# Altium footprint library Andy_Parts.PcbLib: 121 footprints (part 2 of 8)
Each footprint in its own frame and in the unit in brackets; x right, y up, seen from the top. Pads: shape width x height; smd on the part's side, far side on the other; paste and mask are expansions set on the pad; w line width, h text height; cw(c..) or ccw(c..) is an arc to the next point about the centre after c.
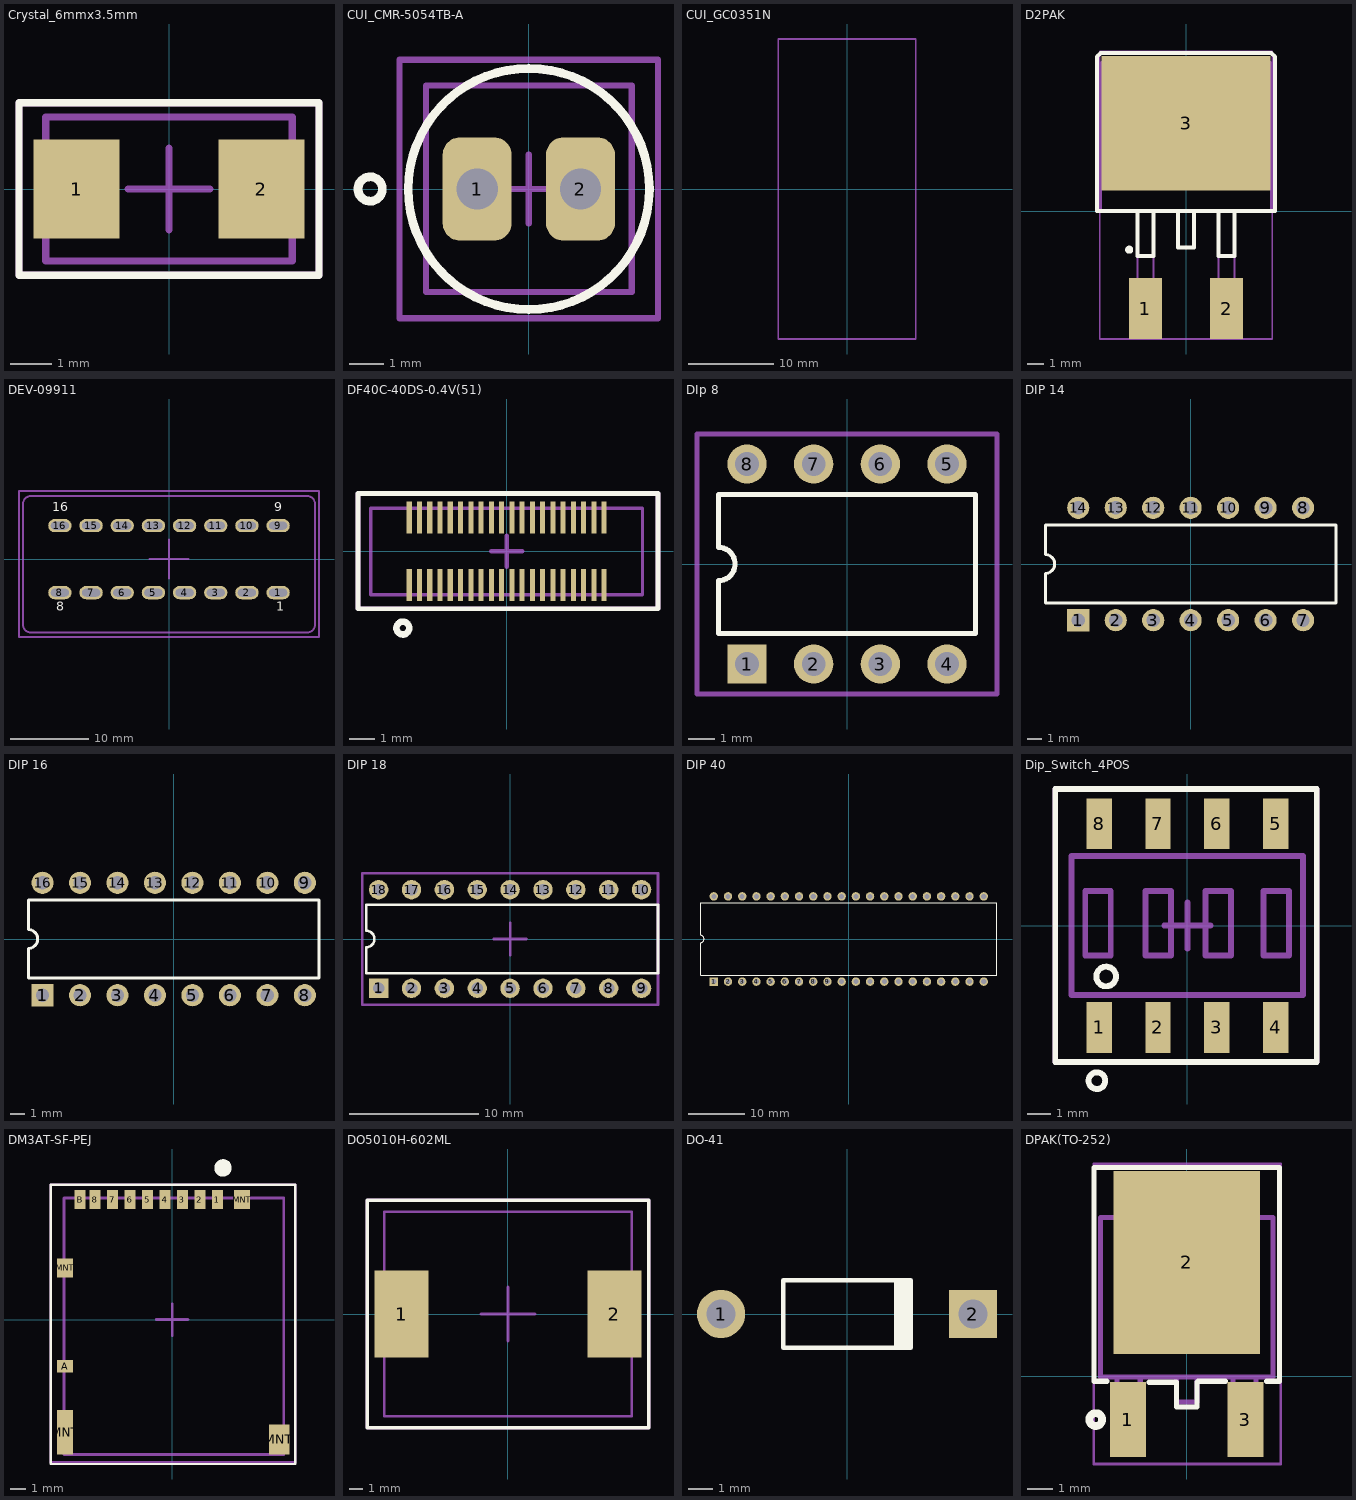
[diagram p1: the footprints below, top view; thin cyan lines are the x and y axes]

## Crystal_6mmx3.5mm [mm] "Citizen Crystal 6mm x 3.5mm"
height 1
pads (2):
  rect 2.1x2.4 smd: 1(-2.25,0) 2(2.25,0)
Top Overlay:
  lines w0.178: -3.65,-2.1 -3.65,2.1 3.65,2.1 3.65,-2.1 -3.65,-2.1
Mechanical 13:
  lines w0.178: -3,-1.75 3,-1.75 3,1.75 -3,1.75 -3,-1.75
Mechanical 15:
  lines w0.178: -1,0 0,0 ; 0,-1 0,0 ; 0,1 0,0 ; 1,0 0,0 ; -3.65,-2.1 3.65,-2.1 3.65,2.1 -3.65,2.1 -3.65,-2.1
3D body: height 1, standoff 0, extent -3,-1.75 3,1.75

## CUI_CMR-5054TB-A [mm] "MIC CONDENSER ELECT N/C -54DB"
height 5
pads (2):
  rrect50% 2x3 / inner rrect50% 1.702x1.702 / far side rect 1.702x1.702 hole 1.2: 1(-1.5,0)
  rrect50% 2x3 / inner rrect50% 1.702x1.702 / far side round 1.702 hole 1.2: 2(1.5,0)
Top Overlay:
  circle w0.254: c-4.604,0 r0.354
  circle w0.254: c0,0 r3.5
Mechanical 1:
  text ".Designator" at -0.75,-0.25 h1.27
Mechanical 13:
  lines w0.178: -2.988,-2.988 2.988,-2.988 2.988,3 -2.988,3 -2.988,-2.988
Mechanical 15:
  lines w0.178: -1,0 1,0 ; 0,-1 0,1 ; -3.75,-3.75 2.5,-3.75 3.75,-3.75 3.75,0.5 3.75,3.75 -3.75,3.75 -3.75,-3.75
3D body: height 4.9, standoff 0, extent -2.988,-2.988 2.988,3
3D body: height 5, standoff 4.9, extent -2.988,-2.988 2.988,3

## CUI_GC0351N [mm] "CUI GC0351N 16mm x 35mm speaker"
height 4.2
Mechanical 13:
  lines w0.178: -8,-17.5 8,-17.5 8,17.5 -8,17.5 -8,-17.5
3D body: height 4.2, standoff 0, extent -8,-17.5 8,17.5

## D2PAK [mm] "D2-PAK/TO-263-AB; 3 Leads (1 Cropped); Body 15.5 (inc. leads) x 10.5 mm (LxW max)"
height 4.69
pads (3):
  rect 2.083x3.81 smd: 1(-2.54,-6.096) 2(2.54,-6.096)
  rect 10.55x8.4 smd: 3(0,5.5)
Top Overlay:
  circle w0.25: c-3.554,-2.413 r0.125
  lines w0.254: -3.048,0 -3.048,-2.794 -2.032,-2.794 -2.032,0 ; -0.508,0 -0.508,-2.286 0.508,-2.286 0.508,0 ; 2.032,0 2.032,-2.794 3.048,-2.794 3.048,0 ; 5.575,9.6 5.575,0 -5.575,0 -5.575,9.6 -5.575,9.665 -5.334,9.906 5.334,9.906 5.575,9.665
Mechanical 1:
  text ".Designator" at 0,0 h1.27
Mechanical 13:
  lines w0.127: -3.048,-4.445 -3.048,0 ; -3.048,-2.794 -2.032,-2.794 ; -2.032,-4.445 -2.032,0 ; -0.508,0 -0.508,-2.286 0.508,-2.286 0.508,0 ; 2.032,-4.445 2.032,0 ; 2.032,-2.794 3.048,-2.794 ; 3.048,-4.445 3.048,0 ; -5.334,8.636 -5.334,9.271 -4.953,9.652 4.953,9.652 5.334,9.271 5.334,8.636 ; -5.334,8.636 5.334,8.636 ; -5.334,8.636 -5.334,0 5.334,0 5.334,8.636
Mechanical 15:
  lines w0.1: -5.4,-8 5.4,-8 5.4,10 -5.4,10 -5.4,-8
3D body: height 4.78, standoff -0.02, extent -5,-7.022 5,8.648
3D body: height 6.35, standoff 0, extent -5.334,0 5.334,8.636
3D body: height 1.65, standoff 0, extent -5.334,8.636 5.334,9.652
3D body: height 3.81, standoff 2.54, extent 2.032,-2.794 3.048,0
3D body: height 3.81, standoff 2.54, extent -3.048,-2.794 -2.032,0
3D body: height 3.81, standoff 2.54, extent -0.508,-2.286 0.508,0

## DEV-09911 [mm] "OBD-II Connector"
height 20
pads (16):
  oval 3x1.7 hole 1 slot 2.3 at 0 deg: 1(14,-4.3) 2(10,-4.3) 3(6,-4.3) 4(2,-4.3) 5(-2,-4.3) 6(-6,-4.3) 7(-10,-4.3) 8(-14,-4.3) 9(14,4.3) 10(10,4.3) 11(6,4.3) 12(2,4.3) 13(-2,4.3) 14(-6,4.3) 15(-10,4.3) 16(-14,4.3)
Top Overlay:
  text "1" at 13.75,-7 h2
  text "8" at -14.5,-7 h2
  text "16" at -15,5.75 h2
  text "9" at 13.5,5.75 h2
Mechanical 1:
  text ".Designator" at -2.25,-0.75 h3
Mechanical 13:
  lines w0.127: -14.85,-4.7 -14.85,-3.9 -13.15,-3.9 -13.15,-4.7 -14.85,-4.7 ; -14.85,3.9 -14.85,4.7 -13.15,4.7 -13.15,3.9 -14.85,3.9 ; -10.85,-4.7 -10.85,-3.9 -9.15,-3.9 -9.15,-4.7 -10.85,-4.7 ; -10.85,3.9 -10.85,4.7 -9.15,4.7 -9.15,3.9 -10.85,3.9 ; -6.85,-4.7 -6.85,-3.9 -5.15,-3.9 -5.15,-4.7 -6.85,-4.7 ; -6.85,3.9 -6.85,4.7 -5.15,4.7 -5.15,3.9 -6.85,3.9 ; -2.85,-4.7 -2.85,-3.9 -1.15,-3.9 -1.15,-4.7 -2.85,-4.7 ; -2.85,3.9 -2.85,4.7 -1.15,4.7 -1.15,3.9 -2.85,3.9 ; 1.15,-4.7 1.15,-3.9 2.85,-3.9 2.85,-4.7 1.15,-4.7 ; 1.15,3.9 1.15,4.7 2.85,4.7 2.85,3.9 1.15,3.9 ; 5.15,-4.7 5.15,-3.9 6.85,-3.9 6.85,-4.7 5.15,-4.7 ; 5.15,3.9 5.15,4.7 6.85,4.7 6.85,3.9 5.15,3.9 ; 9.15,-4.7 9.15,-3.9 10.85,-3.9 10.85,-4.7 9.15,-4.7 ; 9.15,3.9 9.15,4.7 10.85,4.7 10.85,3.9 9.15,3.9 ; 13.15,-4.7 14.85,-4.7 14.85,-3.9 13.15,-3.9 13.15,-4.7 ; 13.15,3.9 13.15,4.7 14.85,4.7 14.85,3.9 13.15,3.9
  lines w0.254: -18.75,-8.415 ccw(c-17.75,-8.415) -17.75,-9.415 17.75,-9.415 ccw(c17.75,-8.415) 18.75,-8.415 18.75,7.085 ccw(c17.75,7.085) 17.75,8.085 -17.75,8.085 ccw(c-17.75,7.085) -18.75,7.085 -18.75,-8.415
Mechanical 15:
  lines w0.254: -2.5,0 2.5,0 ; 0,-2.5 0,2.5 ; -19.25,-10 -19.25,8.75 19.25,8.75 19.25,-10 -19.25,-10
3D body: height -1.6, standoff -21.6, extent -18.759,-9.424 18.759,8.094
3D body: height 4.1, standoff -2, extent 13.15,-4.7 14.85,-3.9
3D body: height 4.1, standoff -2, extent 13.15,3.9 14.85,4.7
3D body: height 4.1, standoff -2, extent 9.15,-4.7 10.85,-3.9
3D body: height 4.1, standoff -2, extent 9.15,3.9 10.85,4.7
3D body: height 4.1, standoff -2, extent 5.15,3.9 6.85,4.7
3D body: height 4.1, standoff -2, extent 5.15,-4.7 6.85,-3.9
3D body: height 3, standoff -2, extent 1.15,-4.7 2.85,-3.9
3D body: height 4.1, standoff -2, extent 1.15,3.9 2.85,4.7
3D body: height 4.1, standoff -2, extent -2.85,3.9 -1.15,4.7
3D body: height 3, standoff -2, extent -2.85,-4.7 -1.15,-3.9
3D body: height 4.1, standoff -2, extent -6.85,-4.7 -5.15,-3.9
3D body: height 4.1, standoff -2, extent -6.85,3.9 -5.15,4.7
3D body: height 4.1, standoff -2, extent -10.85,3.9 -9.15,4.7
3D body: height 4.1, standoff -2, extent -10.85,-4.7 -9.15,-3.9
3D body: height 4.1, standoff -2, extent -14.85,-4.7 -13.15,-3.9
3D body: height 4.1, standoff -2, extent -14.85,3.9 -13.15,4.7

## DF40C-40DS-0.4V(51) [mm] "Hirose 40 pin board stacking connector"
height 1.5
pads (40):
  rect 0.2x1.25 smd: 1(-3.8,-1.32) 2(-3.8,1.32) 3(-3.4,-1.32) 4(-3.4,1.32) 5(-3,-1.32) 6(-3,1.32) 7(-2.6,-1.32) 8(-2.6,1.32) 9(-2.2,-1.32) 10(-2.2,1.32) 11(-1.8,-1.32) 12(-1.8,1.32) 13(-1.4,-1.32) 14(-1.4,1.32) 15(-1,-1.32) 16(-1,1.32) 17(-0.6,-1.32) 18(-0.6,1.32) 19(-0.2,-1.32) 20(-0.2,1.32) 21(0.2,-1.32) 22(0.2,1.32) 23(0.6,-1.32) 24(0.6,1.32) 25(1,-1.32) 26(1,1.32) 27(1.4,-1.32) 28(1.4,1.32) 29(1.8,-1.32) 30(1.8,1.32) 31(2.2,-1.32) 32(2.2,1.32) 33(2.6,-1.32) 34(2.6,1.32) 35(3,-1.32) 36(3,1.32) 37(3.4,-1.32) 38(3.4,1.32) 39(3.8,-1.32) 40(3.8,1.32)
Top Overlay:
  circle w0.254: c-4.05,-3 r0.25
  lines w0.178: -5.8,-2.25 5.9,-2.25 5.9,2.25 -5.8,2.25 -5.8,-2.25
Mechanical 13:
  lines w0.127: -5.3,-1.697 -5.3,1.678 5.3,1.678 5.3,-1.697 -5.3,-1.697
Mechanical 15:
  lines w0.178: -0.6,0 0.6,0 ; 0,-0.6 0,0.6 ; -5.8,-2.25 -1.55,-2.25 5.9,-2.25 5.9,2.25 -5.8,2.25 -5.8,-2.25
3D body: height 1.5, standoff 0, extent -5.3,-1.697 5.3,1.678

## DIp 8 [mm] "DIP, Plastic; 8 Leads; Row Spacing 7.62 mm; Pitch 2.54 mm"
height 4.32
pads (8):
  rect 1.5x1.5 hole 0.9: 1(-3.81,-3.81)
  round 1.5 hole 0.9: 2(-1.27,-3.81) 3(1.27,-3.81) 4(3.81,-3.81) 5(3.81,3.81) 6(1.27,3.81) 7(-1.27,3.81) 8(-3.81,3.81)
Top Overlay:
  lines w0.2: -4.9,-2.65 4.9,-2.65 4.9,2.65 -4.9,2.65 -4.9,0.635 cw(c-4.9,0) -4.9,-0.635 -4.9,-2.65
Mechanical 1:
  text ".Designator" at -3.743,-0.207 h0.64
Mechanical 15:
  lines w0.2: -5.715,-4.953 -5.715,-0.635 -5.715,4.953 5.715,4.953 5.715,-4.953 -5.715,-4.953
3D body: height 5.33, standoff 0.38, extent -4.902,-2.642 4.877,2.667

## DIP 14 [mm] "DIP, Plastic; 14 Leads; Row Spacing 7.62 mm; Pitch 2.54 mm"
height 4.32
pads (14):
  rect 1.5x1.5 hole 0.9: 1(-7.62,-3.81)
  round 1.5 hole 0.9: 2(-5.08,-3.81) 3(-2.54,-3.81) 4(0,-3.81) 5(2.54,-3.81) 6(5.08,-3.81) 7(7.62,-3.81) 8(7.62,3.81) 9(5.08,3.81) 10(2.54,3.81) 11(0,3.81) 12(-2.54,3.81) 13(-5.08,3.81) 14(-7.62,3.81)
Top Overlay:
  lines w0.2: -9.85,-2.65 -9.85,-0.635 ccw(c-9.85,0) -9.85,0.635 -9.85,2.65 9.85,2.65 9.85,-2.65 -9.85,-2.65

## DIP 16 [mm] "DIP; 16 Leads; Row Spacing 7.62 mm; Pitch 2.54 mm"
height 5.33
pads (16):
  rect 1.5x1.5 hole 0.9: 1(-8.89,-3.81)
  round 1.5 hole 0.9: 2(-6.35,-3.81) 3(-3.81,-3.81) 4(-1.27,-3.81) 5(1.27,-3.81) 6(3.81,-3.81) 7(6.35,-3.81) 8(8.89,-3.81) 9(8.89,3.81) 10(6.35,3.81) 11(3.81,3.81) 12(1.27,3.81) 13(-1.27,3.81) 14(-3.81,3.81) 15(-6.35,3.81) 16(-8.89,3.81)
Top Overlay:
  lines w0.2: -9.85,-2.65 -9.85,-0.635 ccw(c-9.85,0) -9.85,0.635 -9.85,2.65 9.85,2.65 9.85,-2.65 -9.85,-2.65

## DIP 18 [mm] "DIP; 18 Leads; Row Spacing 7.62 mm; Pitch 2.54 mm"
height 5.33
pads (18):
  rect 1.5x1.5 hole 0.9: 1(-10.16,-3.81)
  round 1.5 hole 0.9: 2(-7.62,-3.81) 3(-5.08,-3.81) 4(-2.54,-3.81) 5(0,-3.81) 6(2.54,-3.81) 7(5.08,-3.81) 8(7.62,-3.81) 9(10.16,-3.81) 10(10.16,3.81) 11(7.62,3.81) 12(5.08,3.81) 13(2.54,3.81) 14(0,3.81) 15(-2.54,3.81) 16(-5.08,3.81) 17(-7.62,3.81) 18(-10.16,3.81)
Top Overlay:
  lines w0.2: -11.12,-2.65 -11.12,-0.635 ccw(c-11.12,0) -11.12,0.635 -11.12,2.65 11.43,2.65 11.43,-2.65 -11.12,-2.65
Mechanical 1:
  text ".Designator" at -1.524,-0.254 h0.64
Mechanical 15:
  lines w0.203: -1.27,0 0,0 ; 0,-1.27 0,0 ; 0,1.27 0,0 ; 1.27,0 0,0 ; -11.43,-5.08 -11.43,5.08 11.43,5.08 11.43,-5.08 -11.43,-5.08
3D body: height 4.32, standoff 0.38, extent -11.049,-2.667 11.43,2.667

## DIP 40 [mm] "DIP, Plastic; 40 Leads; Row Spacing 15.24 mm; Pitch 2.54 mm"
height 4.83
pads (40):
  rect 1.5x1.5 hole 0.9: 1(-24.13,-7.62)
  round 1.5 hole 0.9: 2(-21.59,-7.62) 3(-19.05,-7.62) 4(-16.51,-7.62) 5(-13.97,-7.62) 6(-11.43,-7.62) 7(-8.89,-7.62) 8(-6.35,-7.62) 9(-3.81,-7.62) 10(-1.27,-7.62) 11(1.27,-7.62) 12(3.81,-7.62) 13(6.35,-7.62) 14(8.89,-7.62) 15(11.43,-7.62) 16(13.97,-7.62) 17(16.51,-7.62) 18(19.05,-7.62) 19(21.59,-7.62) 20(24.13,-7.62) 21(24.13,7.62) 22(21.59,7.62) 23(19.05,7.62) 24(16.51,7.62) 25(13.97,7.62) 26(11.43,7.62) 27(8.89,7.62) 28(6.35,7.62) 29(3.81,7.62) 30(1.27,7.62) 31(-1.27,7.62) 32(-3.81,7.62) 33(-6.35,7.62) 34(-8.89,7.62) 35(-11.43,7.62) 36(-13.97,7.62) 37(-16.51,7.62) 38(-19.05,7.62) 39(-21.59,7.62) 40(-24.13,7.62)
Top Overlay:
  lines w0.2: -26.5,-6.45 26.5,-6.45 26.5,6.45 -26.5,6.45 -26.5,0.635 cw(c-26.5,0) -26.5,-0.635 -26.5,-6.45

## Dip_Switch_4POS [mm] "4 position dip switch, E-Switch"
height 3.2
pads (8):
  rect 1.1x2.2 smd: 1(-3.81,-4.4) 2(-1.27,-4.4) 3(1.27,-4.4) 4(3.81,-4.4) 5(3.81,4.4) 6(1.27,4.4) 7(-1.27,4.4) 8(-3.81,4.4)
Top Overlay:
  circle w0.254: c-3.91,-6.7 r0.361
  circle w0.254: c-3.51,-2.2 r0.424
  lines w0.254: -5.71,-5.9 -5.71,5.9 5.59,5.9 5.59,-5.9 -5.71,-5.9
Mechanical 1:
  text ".Designator" at -2.409,-0.354 h0.64
Mechanical 13:
  lines w0.254: -5.01,-3 -5.01,3 4.99,3 4.99,-3 -5.01,-3 ; -4.41,-1.3 -3.31,-1.3 -3.31,1.5 -4.41,1.5 -4.41,-1.3 ; -1.81,-1.3 -1.81,1.5 -0.71,1.5 -0.71,-1.3 -1.81,-1.3 ; 0.79,-1.3 0.79,1.5 1.89,1.5 1.89,-1.3 0.79,-1.3 ; 3.29,-1.3 3.29,1.5 4.39,1.5 4.39,-1.3 3.29,-1.3
Mechanical 15:
  lines w0.254: -1,0 0,0 ; 0,-1 0,0 ; 0,1 0,0 ; 1,0 0,0 ; -5.71,-5.9 5.59,-5.9 5.59,5.9 -5.71,5.9 -5.71,-5.9
3D body: height 3.8, standoff 3.2, extent -4.41,-1.3 -3.31,1.5
3D body: height 3.2, standoff 0.35, extent -5.01,-3 4.99,3
3D body: height 3.8, standoff 3.2, extent -1.81,-1.3 -0.71,1.5
3D body: height 3.8, standoff 3.2, extent 0.79,-1.3 1.89,1.5
3D body: height 3.8, standoff 3.2, extent 3.29,-1.3 4.39,1.5

## DM3AT-SF-PEJ [mm] "CONN MICRO SD R/A PUSH-PUSH SMD"
height 1.68
pads (14):
  rect 0.7x1.2 smd: 1(2.85,7.55) 2(1.75,7.55) 3(0.65,7.55) 4(-0.45,7.55) 5(-1.55,7.55) 6(-2.65,7.55) 7(-3.75,7.55) 8(-4.85,7.55) B(-5.8,7.55)
  rect 1x0.8 smd: A(-6.75,-2.95)
  rect 1x2.8 smd: MNT(-6.75,-7.1)
  rect 1x1.2 smd: MNT(-6.75,3.25) MNT(4.4,7.55)
  rect 1.3x1.9 smd: MNT(6.75,-7.55)
Top Overlay:
  circle w0.6: c3.2,9.55 r0.25
  lines w0.152: -7.65,-9.1 7.75,-9.1 7.75,8.5 -7.65,8.5 -7.65,-9.1
Mechanical 1:
  text ".Designator" at -3,-0.75 h2.54
Mechanical 13:
  lines w0.178: -6.825,-8.5 -6.825,7.65 7.025,7.65 7.025,-8.5 -6.825,-8.5
Mechanical 15:
  lines w0.152: -7.65,-9 7.75,-9 7.75,8.5 -7.65,8.5 -7.65,-9
  lines w0.178: -1,0 1,0 ; 0,-1 0,1
3D body: height 1.68, standoff 0, extent -6.825,-8.5 7.025,7.65

## DO5010H-602ML [mm] "Coilcraft DO5010H series inductor footprint"
height 8
pads (2):
  rect 4x6.5 smd: 1(-7.95,0) 2(7.95,0)
Top Overlay:
  lines w0.254: -10.5,-8.5 -10.5,8.5 10.5,8.5 10.5,-8.5 -10.5,-8.5
Mechanical 1:
  text ".Designator" at -1.5,-0.5 h2.54
Mechanical 13:
  lines w0.178: -9.25,-7.625 9.25,-7.625 9.25,7.625 -9.25,7.625 -9.25,-7.625
Mechanical 15:
  lines w0.254: -2,0 2,0 ; 0,-2 0,2 ; -10.5,-8.5 10.5,-8.5 10.5,8.5 -10.5,8.5 -10.5,-8.5
3D body: height 8, standoff 0, extent -9.25,-7.625 9.25,7.625

## DO-41 [mm] "Diode, Axial; Body 5.2 x 2.7 mm (LxDia. max), Lead Dia. 0.86 mm (max)"
height 2.8
pads (2):
  round 2 hole 1.2: 1(-5.23,0)
  rect 2x2 hole 1.2: 2(5.23,0)
Top Overlay:
  rectangle: 1.95,-1.4 2.75,1.4
  lines w0.2: 2.65,-1.4 -2.65,-1.4 -2.65,1.4 2.65,1.4

## DPAK(TO-252) [mm] "D-PAK, 3-Pads, Body 6.2x6.7mm (max)"
height 2.38
pads (3):
  rect 1.4x2.9 smd: 1(-2.28,-1.687) 3(2.28,-1.687)
  rect 5.7x7.1 smd: 2(0,4.413)
Top Overlay:
  circle w0.3: c-3.53,-1.687 r0.25
  lines w0.2: -3.1,-0.2 -3.6,-0.2 -3.6,8.1 3.6,8.1 3.6,-0.2 3.1,-0.2 ; -1.463,-0.237 -0.4,-0.237 -0.4,-1.2 0.4,-1.2 0.4,-0.237 ; 0.437,-0.2 1.5,-0.2
Mechanical 1:
  text ".Designator" at -2.6,0 h0.64
Mechanical 13:
  lines w0.2: -2.7,-1.3 -1.8,-1.3 ; -2.7,-0.9 -1.8,-0.9 ; -2.7,-0.037 -2.7,-2.5 -1.8,-2.5 -1.8,-0.037 ; -2.6,6.163 -2.6,7.8 -2.1,7.8 -2.1,7.6 2.1,7.6 2.1,7.8 2.6,7.8 2.6,6.163 ; -0.4,-0.1 -0.4,-1 0.4,-1 0.4,-0.1 ; 1.8,-1.3 2.7,-1.3 ; 1.8,-0.9 2.7,-0.9 ; 1.8,-0.037 1.8,-2.5 2.7,-2.5 2.7,-0.037 ; -3.35,-0.037 -3.35,6.163 3.35,6.163 3.35,-0.037 -3.35,-0.037
Mechanical 15:
  lines w0.1: -0.5,2.413 0.5,2.413 ; 0,1.913 0,2.913 ; -3.6,-3.412 3.65,-3.412 3.65,8.238 -3.6,8.238 -3.6,-3.412
3D body: height 2.38, standoff 0, extent -3.35,-0.037 3.35,6.163